# Altium footprint library mw.PcbLib: 252 footprints (part 13 of 16)
Each footprint in its own frame and in the unit in brackets; x right, y up, seen from the top. Pads: shape width x height; smd on the part's side, far side on the other; paste and mask are expansions set on the pad; w line width, h text height; cw(c..) or ccw(c..) is an arc to the next point about the centre after c.
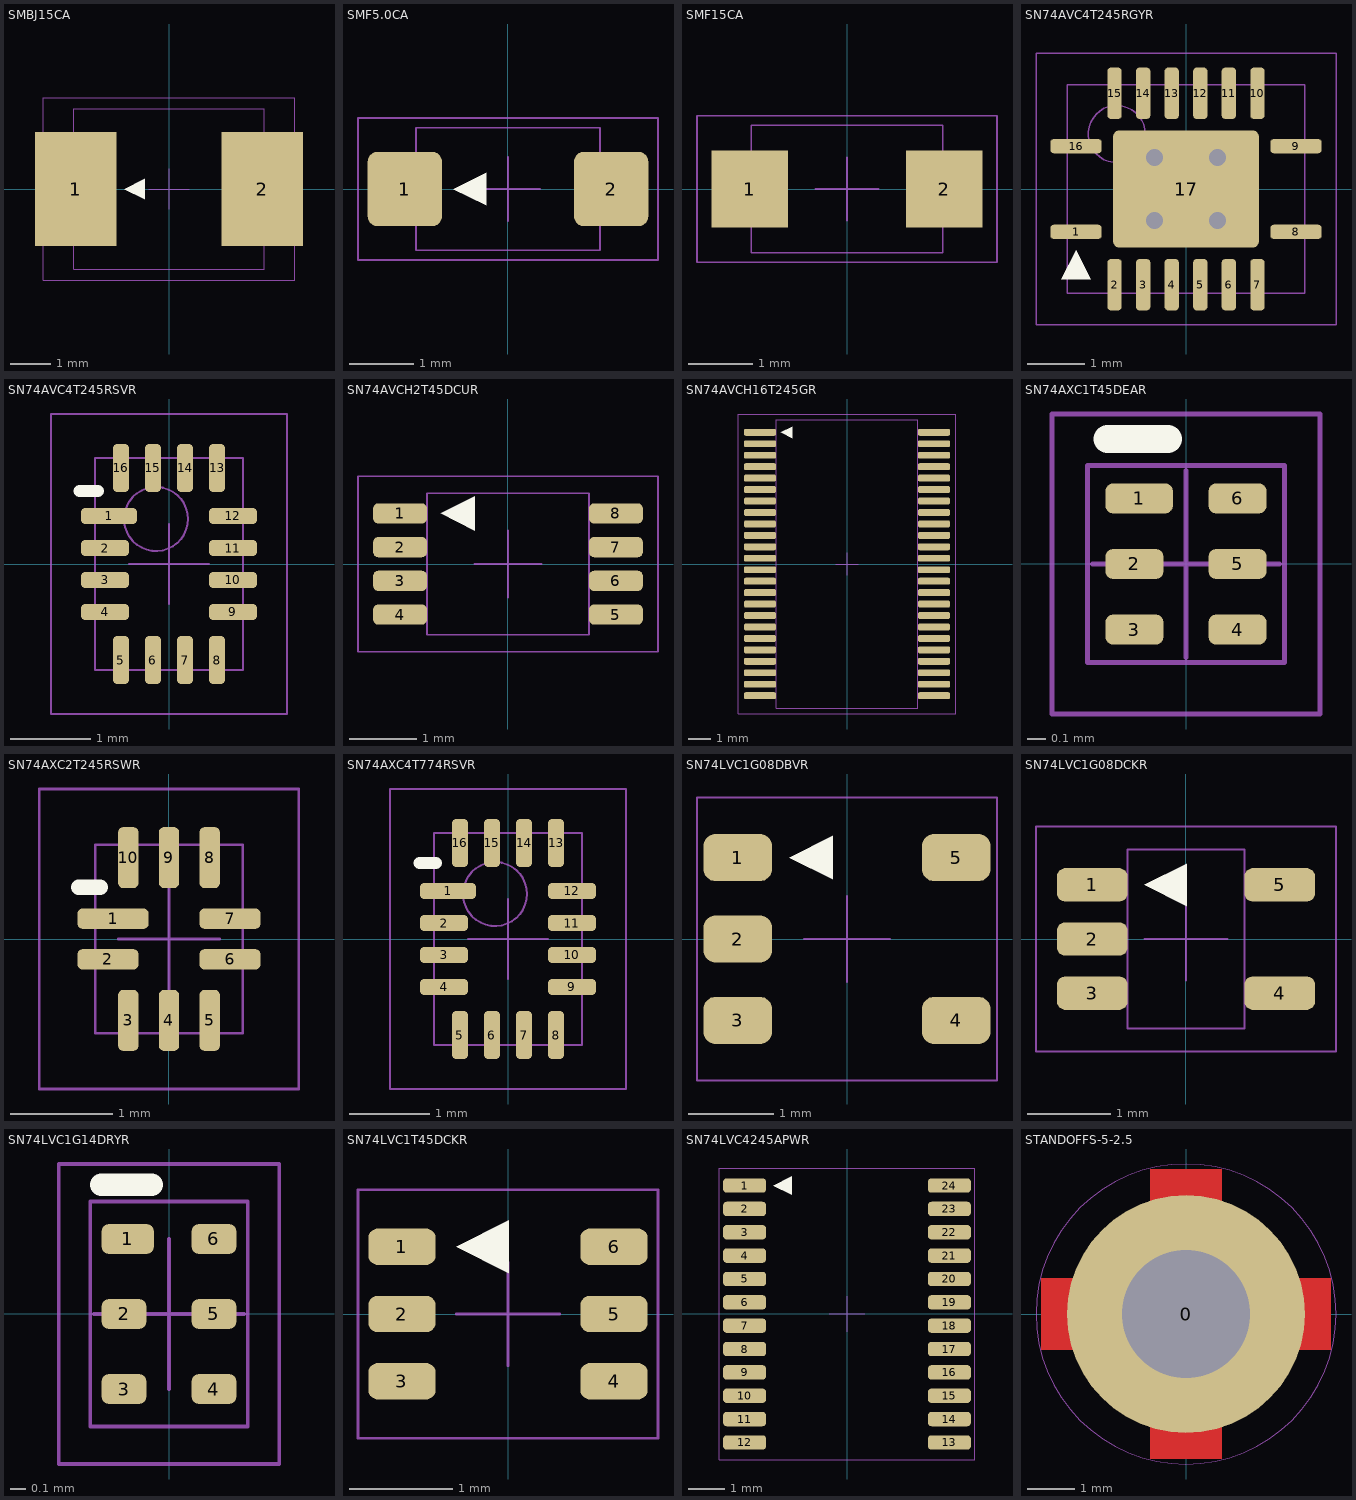
[diagram p12: the footprints below, top view; thin cyan lines are the x and y axes]

## SMBJ15CA [mm] "Molded Diode, 2-Leads, Body 4.38x3.63mm, IPC Medium Density"
height 2.45
pads (2):
  rect 2x2.8 smd: 1(-2.3,0) 2(2.3,0)
Top Overlay:
  region: -0.592,-0.254 -0.592,0.254 -1.1,0
Top 3D Body (Mech13):
  lines w0.025: -2.35,-1.975 2.35,-1.975 2.35,1.975 -2.35,1.975 -2.35,-1.975
Top Courtyard:
  lines w0.025: -0.5,0 0.5,0 ; 0,-0.5 0,0.5 ; -3.1,-2.25 3.1,-2.25 3.1,2.25 -3.1,2.25 -3.1,-2.25
3D body "SMBJ15CA.step": height 2.45, standoff 0, extent -2.57,-1.975 2.57,1.975

## SMF5.0CA [mm] "SODFL, 2-Leads, Body 2.70x1.75mm, IPC Medium Density"
height 1.2
pads (2):
  rrect25% 1.15x1.15 smd: 1(-1.6,0) 2(1.6,0)
Top Overlay:
  region: -0.338,-0.254 -0.338,0.254 -0.846,0
Top 3D Body (Mech13):
  lines w0.025: -1.425,-0.95 -1.425,0.95 1.425,0.95 1.425,-0.95 -1.425,-0.95
Top Courtyard:
  lines w0.025: -0.5,0 0.5,0 ; 0,-0.5 0,0.5 ; -2.325,-1.1 -2.325,1.1 2.325,1.1 2.325,-1.1 -2.325,-1.1
3D body "SMF5.0CA.step": height 1.2, standoff 0, extent -1.875,-0.95 1.875,0.95

## SMF15CA [mm] "SODFL, 2-Leads, Body 1.80x3.73mm, IPC Medium Density"
height 1.35
pads (2):
  rect 1.2x1.2 smd: 1(-1.526,0) 2(1.526,0)
Top 3D Body (Mech13):
  lines w0.025: -1.5,-1 1.5,-1 1.5,1 -1.5,1 -1.5,-1
Top Courtyard:
  lines w0.025: -0.5,0 0.5,0 ; 0,-0.5 0,0.5 ; -2.35,-1.15 2.35,-1.15 2.35,1.15 -2.35,1.15 -2.35,-1.15
3D body "SMF15CA.step": height 1.35, standoff 0, extent -1.863,-1 1.863,1

## SN74AVC4T245RGYR [mm] "QFN, 16-Leads, Body 4.00x3.50mm, Pitch 0.50mm/1.50mm, Thermal Pad 2.55x2.05mm, IPC Medium Density"
height 1
pads (17):
  rrect50% 0.9x0.25 smd: 1(-1.925,-0.75) 8(1.925,-0.75) 9(1.925,0.75) 16(-1.925,0.75)
  rrect50% 0.25x0.9 smd: 2(-1.25,-1.675) 3(-0.75,-1.675) 4(-0.25,-1.675) 5(0.25,-1.675) 6(0.75,-1.675) 7(1.25,-1.675) 10(1.25,1.675) 11(0.75,1.675) 12(0.25,1.675) 13(-0.25,1.675) 14(-0.75,1.675) 15(-1.25,1.675)
  rrect10% 2.55x2.05 smd: 17(0,0)
via 0.55,-0.55 diameter 0.45 hole 0.3
via -0.55,-0.55 diameter 0.45 hole 0.3
via 0.55,0.55 diameter 0.45 hole 0.3
via -0.55,0.55 diameter 0.45 hole 0.3
Top Overlay:
  region: -2.179,-1.583 -1.671,-1.583 -1.925,-1.075
Top 3D Body (Mech13):
  circle w0.025: c-1.212,0.962 r0.5
  lines w0.025: -2.075,-1.825 2.075,-1.825 2.075,1.825 -2.075,1.825 -2.075,-1.825
Top Courtyard:
  lines w0.025: -0.5,0 0.5,0 ; 0,-0.5 0,0.5 ; -2.625,-2.375 2.625,-2.375 2.625,2.375 -2.625,2.375 -2.625,-2.375
3D body "SN74AVC4T245RGYR.step": height 1, standoff 0, extent -2.155,-1.905 2.155,1.905

## SN74AVC4T245RSVR [mm] "QFN, 16-Leads, Body 1.80x2.60mm, Pitch 0.40mm, IPC Medium Density"
height 0.55
pads (16):
  rrect50% 0.7x0.2 smd: 1(-0.75,0.6)
  rrect50% 0.6x0.2 smd: 2(-0.8,0.2) 3(-0.8,-0.2) 4(-0.8,-0.6) 9(0.8,-0.6) 10(0.8,-0.2) 11(0.8,0.2) 12(0.8,0.6)
  rrect50% 0.2x0.6 smd: 5(-0.6,-1.2) 6(-0.2,-1.2) 7(0.2,-1.2) 8(0.6,-1.2) 13(0.6,1.2) 14(0.2,1.2) 15(-0.2,1.2) 16(-0.6,1.2)
Top Overlay:
  lines w0.15: -1.12,0.914 -0.889,0.914
Top 3D Body (Mech13):
  circle w0.025: c-0.162,0.562 r0.4
  lines w0.025: -0.925,-1.325 -0.925,1.325 0.925,1.325 0.925,-1.325 -0.925,-1.325
Top Courtyard:
  lines w0.025: -0.5,0 0.5,0 ; 0,-0.5 0,0.5 ; -1.475,-1.875 -1.475,1.875 1.475,1.875 1.475,-1.875 -1.475,-1.875
3D body "SN74AVC4T245RSVR.step": height 0.55, standoff 0, extent -0.975,-1.375 0.975,1.375

## SN74AVCH2T45DCUR [mm] "TSSOP, 8-Leads, Body 2.00x2.30mm, Pitch 0.50mm, IPC Medium Density"
height 0.9
pads (8):
  rrect50% 0.8x0.3 smd: 1(-1.6,0.75) 2(-1.6,0.25) 3(-1.6,-0.25) 4(-1.6,-0.75) 5(1.6,-0.75) 6(1.6,-0.25) 7(1.6,0.25) 8(1.6,0.75)
Top Overlay:
  region: -0.492,0.496 -0.492,1.004 -1,0.75
Top 3D Body (Mech13):
  lines w0.025: -1.2,-1.05 -1.2,1.05 1.2,1.05 1.2,-1.05 -1.2,-1.05
Top Courtyard:
  lines w0.025: -0.5,0 0.5,0 ; 0,-0.5 0,0.5 ; -2.225,-1.3 -2.225,1.3 2.225,1.3 2.225,-1.3 -2.225,-1.3
3D body "SN74AVCH2T45DCUR.step": height 0.9, standoff 0, extent -1.549,-1.05 1.549,1.05

## SN74AVCH16T245GR [mm] "TSSOP, 48-Leads, Body 12.50x6.10mm, Pitch 0.50mm, IPC Medium Density"
height 1.2
pads (48):
  rrect50% 1.4x0.3 smd: 1(-3.8,5.75) 2(-3.8,5.25) 3(-3.8,4.75) 4(-3.8,4.25) 5(-3.8,3.75) 6(-3.8,3.25) 7(-3.8,2.75) 8(-3.8,2.25) 9(-3.8,1.75) 10(-3.8,1.25) 11(-3.8,0.75) 12(-3.8,0.25) 13(-3.8,-0.25) 14(-3.8,-0.75) 15(-3.8,-1.25) 16(-3.8,-1.75) 17(-3.8,-2.25) 18(-3.8,-2.75) 19(-3.8,-3.25) 20(-3.8,-3.75) 21(-3.8,-4.25) 22(-3.8,-4.75) 23(-3.8,-5.25) 24(-3.8,-5.75) 25(3.8,-5.75) 26(3.8,-5.25) 27(3.8,-4.75) 28(3.8,-4.25) 29(3.8,-3.75) 30(3.8,-3.25) 31(3.8,-2.75) 32(3.8,-2.25) 33(3.8,-1.75) 34(3.8,-1.25) 35(3.8,-0.75) 36(3.8,-0.25) 37(3.8,0.25) 38(3.8,0.75) 39(3.8,1.25) 40(3.8,1.75) 41(3.8,2.25) 42(3.8,2.75) 43(3.8,3.25) 44(3.8,3.75) 45(3.8,4.25) 46(3.8,4.75) 47(3.8,5.25) 48(3.8,5.75)
Top Overlay:
  region: -2.392,5.496 -2.392,6.004 -2.9,5.75
Top 3D Body (Mech13):
  lines w0.025: -3.1,-6.3 3.1,-6.3 3.1,6.3 -3.1,6.3 -3.1,-6.3
Top Courtyard:
  lines w0.025: -0.5,0 0.5,0 ; 0,-0.5 0,0.5 ; -4.75,-6.55 4.75,-6.55 4.75,6.55 -4.75,6.55 -4.75,-6.55
3D body "TSSOP.step": height 1.2, standoff 0, extent -4.05,-6.3 4.05,6.3

## SN74AXC1T45DEAR [mm] "PSON, 6-Leads, Body 1.00x1.00mm, Pitch 0.35mm, IPC Medium Density"
height 0.4
pads (6):
  rrect50% 0.36x0.16 smd: 1(-0.25,0.35)
  rrect50% 0.31x0.16 smd: 2(-0.275,0) 3(-0.275,-0.35) 4(0.275,-0.35) 5(0.275,0) 6(0.275,0.35)
Top Overlay:
  lines w0.15: -0.42,0.666 -0.096,0.666
Top 3D Body (Mech13):
  lines w0.025: -0.525,-0.525 -0.525,0.525 0.525,0.525 0.525,-0.525 -0.525,-0.525
Top Courtyard:
  lines w0.025: -0.5,0 0.5,0 ; 0,-0.5 0,0.5 ; -0.715,-0.8 -0.715,0.8 0.715,0.8 0.715,-0.8 -0.715,-0.8
3D body "SN74AXC1T45DEAR.step": height 0.4, standoff 0, extent -0.526,-0.525 0.526,0.525

## SN74AXC2T245RSWR [mm] "QFN, 10-Leads, Body 1.40x1.80mm, Pitch 0.40mm, IPC Medium Density"
height 0.55
pads (10):
  rrect50% 0.7x0.2 smd: 1(-0.55,0.2)
  rrect50% 0.6x0.2 smd: 2(-0.6,-0.2) 6(0.6,-0.2) 7(0.6,0.2)
  rrect50% 0.2x0.6 smd: 3(-0.4,-0.8) 4(0,-0.8) 5(0.4,-0.8) 8(0.4,0.8) 9(0,0.8) 10(-0.4,0.8)
Top Overlay:
  lines w0.15: -0.889,0.508 -0.676,0.508
Top 3D Body (Mech13):
  lines w0.025: -0.725,-0.925 0.725,-0.925 0.725,0.925 -0.725,0.925 -0.725,-0.925
Top Courtyard:
  lines w0.025: -0.5,0 0.5,0 ; 0,-0.5 0,0.5 ; -1.275,-1.475 1.275,-1.475 1.275,1.475 -1.275,1.475 -1.275,-1.475
3D body "SN74AXC2T245RSWR.step": height 0.55, standoff 0, extent -0.775,-0.975 0.775,0.975

## SN74AXC4T774RSVR [mm] "QFN, 16-Leads, Body 1.80x2.60mm, Pitch 0.40mm, IPC Medium Density"
height 0.55
pads (16):
  rrect50% 0.7x0.2 smd: 1(-0.75,0.6)
  rrect50% 0.6x0.2 smd: 2(-0.8,0.2) 3(-0.8,-0.2) 4(-0.8,-0.6) 9(0.8,-0.6) 10(0.8,-0.2) 11(0.8,0.2) 12(0.8,0.6)
  rrect50% 0.2x0.6 smd: 5(-0.6,-1.2) 6(-0.2,-1.2) 7(0.2,-1.2) 8(0.6,-1.2) 13(0.6,1.2) 14(0.2,1.2) 15(-0.2,1.2) 16(-0.6,1.2)
Top Overlay:
  lines w0.15: -1.105,0.948 -0.898,0.948
Top 3D Body (Mech13):
  circle w0.025: c-0.162,0.562 r0.4
  lines w0.025: -0.925,-1.325 -0.925,1.325 0.925,1.325 0.925,-1.325 -0.925,-1.325
Top Courtyard:
  lines w0.025: -0.5,0 0.5,0 ; 0,-0.5 0,0.5 ; -1.475,-1.875 -1.475,1.875 1.475,1.875 1.475,-1.875 -1.475,-1.875
3D body "SN74AXC4T774RSVR.step": height 0.55, standoff 0, extent -0.975,-1.375 0.975,1.375

## SN74LVC1G08DBVR [mm] "SOT23, 5-Leads, Body 2.90x2.80mm, Pitch 0.95mm, IPC High Density"
height 1.45
pads (5):
  rrect50% 0.8x0.55 smd: 1(-1.275,0.95) 2(-1.275,0) 3(-1.275,-0.95) 4(1.275,-0.95) 5(1.275,0.95)
Top Overlay:
  region: -0.167,0.696 -0.167,1.204 -0.675,0.95
Top Courtyard:
  lines w0.025: -0.5,0 0.5,0 ; 0,-0.5 0,0.5 ; -1.75,-1.65 1.75,-1.65 1.75,1.65 -1.75,1.65 -1.75,-1.65

## SN74LVC1G08DCKR [mm] "SOT23, 5-Leads, Body 2.00x2.10mm, Pitch 0.65mm, IPC Medium Density"
height 1.1
pads (5):
  rrect50% 0.85x0.4 smd: 1(-1.125,0.65) 2(-1.125,0) 3(-1.125,-0.65) 4(1.125,-0.65) 5(1.125,0.65)
Top Overlay:
  region: 0.008,0.396 0.008,0.904 -0.5,0.65
Top 3D Body (Mech13):
  lines w0.025: -0.7,-1.075 -0.7,1.075 0.7,1.075 0.7,-1.075 -0.7,-1.075
Top Courtyard:
  lines w0.025: -0.5,0 0.5,0 ; 0,-0.5 0,0.5 ; -1.8,-1.35 -1.8,1.35 1.8,1.35 1.8,-1.35 -1.8,-1.35
3D body "SN74LVC1G08DCKR.step": height 1.1, standoff 0, extent -1.2,-1.075 1.2,1.075

## SN74LVC1G14DRYR [mm] "PSON, 6-Leads, Body 1.45x1.00mm, Pitch 0.50mm, IPC Medium Density"
height 0.6
pads (6):
  rrect50% 0.35x0.2 smd: 1(-0.275,0.5)
  rrect50% 0.3x0.2 smd: 2(-0.3,0) 3(-0.3,-0.5) 4(0.3,-0.5) 5(0.3,0) 6(0.3,0.5)
Top Overlay:
  lines w0.15: -0.451,0.86 -0.116,0.86
Top 3D Body (Mech13):
  lines w0.025: -0.525,-0.75 -0.525,0.75 0.525,0.75 0.525,-0.75 -0.525,-0.75
Top Courtyard:
  lines w0.025: -0.5,0 0.5,0 ; 0,-0.5 0,0.5 ; -0.735,-1 -0.735,1 0.735,1 0.735,-1 -0.735,-1
3D body "SN74LVC1G14DRYR.step": height 0.6, standoff 0, extent -0.526,-0.75 0.526,0.75

## SN74LVC1T45DCKR [mm]
height 1
pads (6):
  rrect50% 0.65x0.35 smd: 1(-1.025,0.65) 2(-1.025,0) 3(-1.025,-0.65) 4(1.025,-0.65) 5(1.025,0) 6(1.025,0.65)
Top Overlay:
  region: 0.008,0.396 0.008,0.904 -0.5,0.65
Top Courtyard:
  lines w0.025: -0.5,0 0.5,0 ; 0,-0.5 0,0.5 ; -1.45,-1.2 1.45,-1.2 1.45,1.2 -1.45,1.2 -1.45,-1.2
3D body "sn74lvc1t45dckr.STEP": height 0.98, standoff 0, extent -1.035,-1 1.035,1

## SN74LVC4245APWR [mm] "TSOP, 24-Leads, Body 7.80x4.47mm, Pitch 0.65mm, IPC High Density"
height 1.2
pads (24):
  rrect50% 1.2x0.4 smd: 1(-2.85,3.575) 2(-2.85,2.925) 3(-2.85,2.275) 4(-2.85,1.625) 5(-2.85,0.975) 6(-2.85,0.325) 7(-2.85,-0.325) 8(-2.85,-0.975) 9(-2.85,-1.625) 10(-2.85,-2.275) 11(-2.85,-2.925) 12(-2.85,-3.575) 13(2.85,-3.575) 14(2.85,-2.925) 15(2.85,-2.275) 16(2.85,-1.625) 17(2.85,-0.975) 18(2.85,-0.325) 19(2.85,0.325) 20(2.85,0.975) 21(2.85,1.625) 22(2.85,2.275) 23(2.85,2.925) 24(2.85,3.575)
Top Overlay:
  region: -1.542,3.321 -1.542,3.829 -2.05,3.575
Top Courtyard:
  lines w0.025: -0.5,0 0.5,0 ; 0,-0.5 0,0.5 ; -3.55,-4.05 -3.55,4.05 3.55,4.05 3.55,-4.05 -3.55,-4.05

## STANDOFFS-5-2.5 [mm] "锟解径5 台锟斤拷锟解径2.5"
pads (1):
  round 5 / inner round 5 / far side round 0 hole 2.7: 0(0,0)
Top Layer:
  region: 0.762,-1.422 -0.762,-1.422 -0.762,-3.048 0.762,-3.048
  region: 1.422,0.762 1.422,-0.762 3.048,-0.762 3.048,0.762
  rectangle: -0.762,1.422 0.762,3.048
  region: -1.422,-0.762 -1.422,0.762 -3.048,0.762 -3.048,-0.762
Top Paste:
  region: 1.191,2.114 0.818,1.445 1.48,0.783 2.15,1.155
  region: 2.337,0.653 1.6,0.443 1.6,-0.493 2.337,-0.704
  region: 2.337,0.653 1.6,0.443 1.6,-0.493 2.337,-0.704
  region: 2.114,-1.191 1.445,-0.818 0.783,-1.48 1.155,-2.15
  region: 0.653,-2.337 0.443,-1.6 -0.493,-1.6 -0.704,-2.337
  region: -1.191,-2.114 -0.818,-1.445 -1.48,-0.783 -2.15,-1.155
  region: -2.337,-0.653 -1.6,-0.443 -1.6,0.493 -2.337,0.704
  region: -2.114,1.191 -1.445,0.818 -0.783,1.48 -1.155,2.15
  region: -0.653,2.337 -0.443,1.6 0.493,1.6 0.704,2.337
Top Solder:
  region: 0.762,-1.422 -0.762,-1.422 -0.762,-3.048 0.762,-3.048
  region: 1.422,0.762 1.422,-0.762 3.048,-0.762 3.048,0.762
  rectangle: -0.762,1.422 0.762,3.048
  region: -1.422,-0.762 -1.422,0.762 -3.048,0.762 -3.048,-0.762
Top Courtyard:
  circle w0.025: c0,0 r3.155
  lines w0.025: -0.381,0 0.381,0 ; 0,-0.381 0,0.381
3D body "cp-m2-3.2-5.SLDPRT": height 3.2, standoff -1.5, extent -2.497,-2.5 2.497,2.5